# Altium schematic symbol library Inductors.SchLib: 1 symbol
Pins are listed as number, name and electrical type; pins without a type are passive.

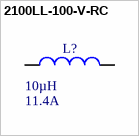
[diagram p0: symbol 2100LL-100-V-RC]

## 2100LL-100-V-RC
designator L?  Current Rating: 11.4A  Inductance: 10µH  (hidden comment: *)
FIXED IND 10UH 11.4A 5 MOHM TH; Tolerance: ±15%; DC Resistance (DCR): 5 mOhm Max; Shielding: Shielded; Supplier 1: Digi-Key; Supplier Part Number 1: 2100LL-100-V-RC-ND
footprint Shielded Toroidal Inductor (Vertical, 370 mil lead spacing, 53 mil lead diameter)
pins: 1, 2